# Altium integrated library CD4013BEE4.IntLib: 1 symbol
Pins are listed as number, name and electrical type; pins without a type are passive.

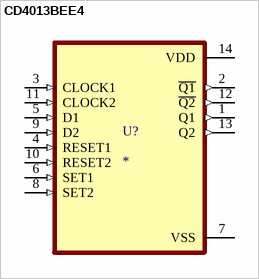
[diagram p0: symbol CD4013BEE4]

## CD4013BEE4
designator U?
CMOS Dual D-Type Flip Flop 14-PDIP -55 to 125; MF: Texas Instruments; MP: CD4013BEE4; Check_prices: https://www.snapeda.com/parts/CD4013BEE4/Texas+Instruments/view-part/?ref=eda; Purchase-URL: https://pricing.snapeda.com/search/part/CD4013BEE4/?ref=eda; Value: *; Availability: In Stock; Price: None; Package: PDIP-14 Texas Instruments; SnapEDA_Link: https://www.snapeda.com/parts/CD4013BEE4/Texas+Instruments/view-part/?ref=snap
footprint DIP794W45P254L1969H508Q14
pins: 1 Q1 (out), 2 ~{Q1} (out), 3 CLOCK1 (in), 4 RESET1 (in), 5 D1 (in), 6 SET1 (in), 7 VSS (power), 8 SET2 (in), 9 D2 (in), 10 RESET2 (in), 11 CLOCK2 (in), 12 ~{Q2} (out), 13 Q2 (out), 14 VDD (power)